# EAGLE library part HV9910B (library supertex)
Universal High Brightness LED Driver Source: www.supertex.com .. led_driver_ics_SG.pdf
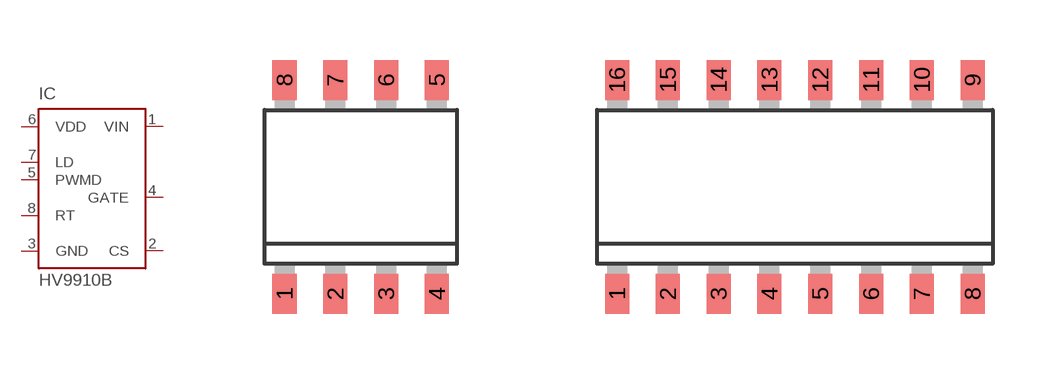
[diagram p0: symbol with the pads of SOIC-08LG; footprints SOIC-08LG, SOIC-16NG]

Designator prefix IC

## HV9910BLG  [SOIC-08LG]
1  VIN  in
2  CS  in
3  GND  pwr
4  GATE  out
5  PWMD  in
6  VDD  pwr
7  LD  in
8  RT  pas

## HV9910BNG  [SOIC-16NG]
1  VIN  in
4  CS  in
5  GND  pwr
8  GATE  out
9  PWMD  in
12  VDD  pwr
13  LD  in
14  RT  pas

## Footprint SOIC-08LG (pad centres in mm)
8-Lead SOIC (Narrow Body) Package Outline (LG) 4.9x3.9mm body, 1.75mm height (max), 1.27mm pitch Source: www.supertex.com .. led_driver_ics_SG.pdf
smd 0.6 x 1: 1 -1.905,-2.675; 2 -0.635,-2.675; 3 0.635,-2.675; 4 1.905,-2.675; 5 1.905,2.675; 6 0.635,2.675; 7 -0.635,2.675; 8 -1.905,2.675

## Footprint SOIC-16NG (pad centres in mm)
16-Lead SOIC (Narrow Body) Package Outline (NG) 9.90x3.90mm body, 1.75mm height (max), 1.27mm pitch Source: www.supertex.com .. led_driver_ics_SG.pdf
smd 0.6 x 1: 1 -4.445,-2.675; 2 -3.175,-2.675; 3 -1.905,-2.675; 4 -0.635,-2.675; 5 0.635,-2.675; 6 1.905,-2.675; 7 3.175,-2.675; 8 4.445,-2.675; 9 4.445,2.675; 10 3.175,2.675; 11 1.905,2.675; 12 0.635,2.675; 13 -0.635,2.675; 14 -1.905,2.675; 15 -3.175,2.675; 16 -4.445,2.675